# Altium integrated library National Semiconductor Audio.IntLib: 683 symbols (part 18 of 18)
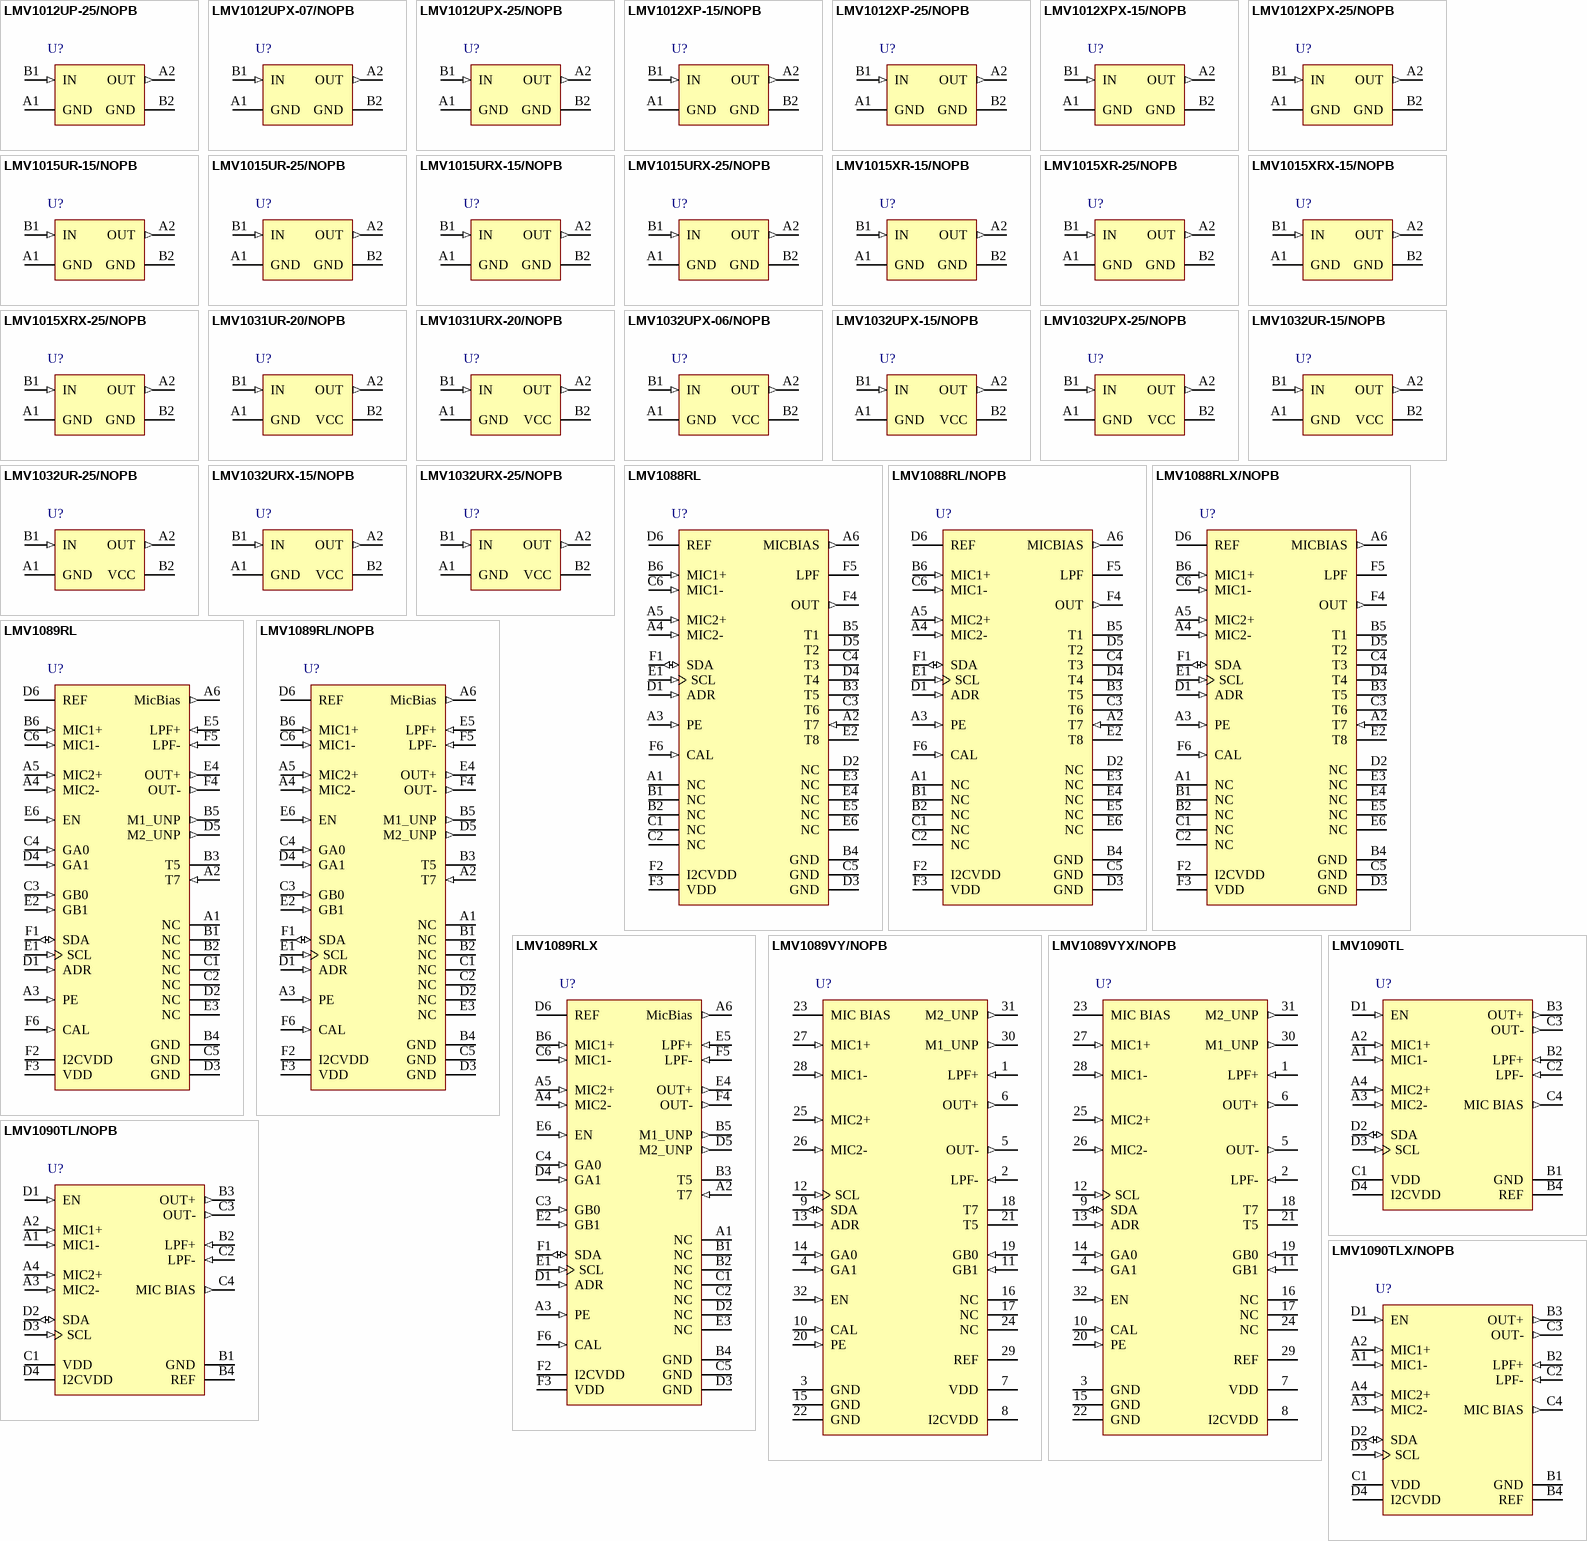
[diagram p43: symbols LMV1012UP-25/NOPB to LMV1090TLX/NOPB]

## LMV1032URX-15/NOPB
designator U?
Amplifiers for 3-Wire Analog Electret Microphones, 4-pin Micro SMD, Pb-Free; PartNumber: LMV1032URX-15/NOPB; Manufacturer: National Semiconductor; PackageTopMarking: X*I; PowerWise: N; CompType: Audio IC; High-Reliability: Y; DatasheetVersion: Nov-2005; PackageVersion: revC, Mar-2005; PackageReference: URA04JJA; PackageDescription: Ultra Thin Micro SMD, 4 Bump (Large), 0.5mm Pitch; RoHS: Y; PinCount: 4; ComponentLink1Description: Manufacturer URL; ComponentLink1URL: http://www.national.com/; ComponentLink2Description: LMV1032 Datasheet; ComponentLink2URL: http://www.national.com/ds/LM/LMV1032.pdf; ComponentLink3Description: LMV1032 Web Page; ComponentLink3URL: http://www.national.com/pf/LM/LMV1032.html; ComponentLink4Description: URA04JJA Package Page; ComponentLink4URL: http://www.national.com/packaging/folders/ura04jja.html
footprint URA04JJA (Micro SMD, 4-Leads, Body 1.18x1.18mm, Pitch 0.5mm, NSC Recommended)
pins: A1 GND (power), A2 OUT (out), B1 IN (in), B2 VCC (power)

## LMV1032URX-25/NOPB
designator U?
Amplifiers for 3-Wire Analog Electret Microphones, 4-pin Micro SMD, Pb-Free; PartNumber: LMV1032URX-25/NOPB; Manufacturer: National Semiconductor; PackageTopMarking: X*I; PowerWise: N; CompType: Audio IC; High-Reliability: Y; DatasheetVersion: Nov-2005; PackageVersion: revC, Mar-2005; PackageReference: URA04JJA; PackageDescription: Ultra Thin Micro SMD, 4 Bump (Large), 0.5mm Pitch; RoHS: Y; PinCount: 4; ComponentLink1Description: Manufacturer URL; ComponentLink1URL: http://www.national.com/; ComponentLink2Description: LMV1032 Datasheet; ComponentLink2URL: http://www.national.com/ds/LM/LMV1032.pdf; ComponentLink3Description: LMV1032 Web Page; ComponentLink3URL: http://www.national.com/pf/LM/LMV1032.html; ComponentLink4Description: URA04JJA Package Page; ComponentLink4URL: http://www.national.com/packaging/folders/ura04jja.html
footprint URA04JJA (Micro SMD, 4-Leads, Body 1.18x1.18mm, Pitch 0.5mm, NSC Recommended)
pins: A1 GND (power), A2 OUT (out), B1 IN (in), B2 VCC (power)

## LMV1088RL
designator U?
Dual Input, Clarisound TM Far Field Noise Suppression Microphone Amplifier with Automatic Calibration Ability, 36-pin Micro SMDXT; PartNumber: LMV1088RL; Manufacturer: National Semiconductor; PackageTopMarking: XYTT*I ZA1; PowerWise: Y; CompType: Audio IC; DatasheetVersion: Feb-2009; PackageVersion: revA, 2008; PackageReference: RLA36TTA; PackageDescription: Micro SMDxt, 36 Bump (Large), 0.5mm Pitch; RoHS: Y; PinCount: 36; High-Reliability: Y; ComponentLink1Description: Manufacturer URL; ComponentLink1URL: http://www.national.com/; ComponentLink2Description: LMV1088 Datasheet; ComponentLink2URL: http://www.national.com/ds/LM/LMV1088.pdf; ComponentLink3Description: LMV1088 Web Page; ComponentLink3URL: http://www.national.com/pf/LM/LMV1088.html
footprint RLA36TTA (Micro SMD, 36-Leads, Body 3.46x3.46mm, Pitch 0.5mm, NSC Recommended)
pins: A1 NC, A2 T7 (in), A3 PE (in), A4 MIC2- (in), A5 MIC2+ (in), A6 MICBIAS (out), B1 NC, B2 NC, B3 T5, B4 GND (power), B5 T1, B6 MIC1+ (in), C1 NC, C2 NC, C3 T6, C4 T3, C5 GND (power), C6 MIC1- (in), D1 ADR (in), D2 NC, D3 GND (power), D4 T4, D5 T2, D6 REF, E1 SCL (in), E2 T8 (power), E3 NC, E4 NC, E5 NC, E6 NC, F1 SDA (io), F2 I2CVDD (power), F3 VDD (power), F4 OUT (out), F5 LPF, F6 CAL (in)

## LMV1088RL/NOPB
designator U?
Dual Input, Far Field Noise Suppression Microphone Amplifier with Automatic Calibration Ability, 36-pin Micro SMDXT, Pb-Free; PartNumber: LMV1088RL/NOPB; Manufacturer: National Semiconductor; PackageTopMarking: XYTT*I ZA1; PowerWise: Y; CompType: Audio IC; DatasheetVersion: Feb-2009; PackageVersion: revA, 2008; PackageReference: RLA36TTA; PackageDescription: Micro SMDxt, 36 Bump (Large), 0.5mm Pitch; RoHS: Y; PinCount: 36; High-Reliability: Y; ComponentLink1Description: Manufacturer URL; ComponentLink1URL: http://www.national.com/; ComponentLink2Description: LMV1088 Datasheet; ComponentLink2URL: http://www.national.com/ds/LM/LMV1088.pdf; ComponentLink3Description: LMV1088 Web Page; ComponentLink3URL: http://www.national.com/pf/LM/LMV1088.html; ComponentLink4Description: RLA36TTA Package Page; ComponentLink4URL: http://www.national.com/packaging/folders/rla36tta.html
footprint RLA36TTA (Micro SMD, 36-Leads, Body 3.46x3.46mm, Pitch 0.5mm, NSC Recommended)
pins: A1 NC, A2 T7 (in), A3 PE (in), A4 MIC2- (in), A5 MIC2+ (in), A6 MICBIAS (out), B1 NC, B2 NC, B3 T5, B4 GND (power), B5 T1, B6 MIC1+ (in), C1 NC, C2 NC, C3 T6, C4 T3, C5 GND (power), C6 MIC1- (in), D1 ADR (in), D2 NC, D3 GND (power), D4 T4, D5 T2, D6 REF, E1 SCL (in), E2 T8 (power), E3 NC, E4 NC, E5 NC, E6 NC, F1 SDA (io), F2 I2CVDD (power), F3 VDD (power), F4 OUT (out), F5 LPF, F6 CAL (in)

## LMV1088RLX/NOPB
designator U?
Dual Input, Far Field Noise Suppression Microphone Amplifier with Automatic Calibration Ability, 36-pin Micro SMDXT, Pb-Free; PartNumber: LMV1088RLX/NOPB; Manufacturer: National Semiconductor; PackageTopMarking: XYTT*I ZA1; PowerWise: Y; CompType: Audio IC; DatasheetVersion: Feb-2009; PackageVersion: revA, 2008; PackageReference: RLA36TTA; PackageDescription: Micro SMDxt, 36 Bump (Large), 0.5mm Pitch; RoHS: Y; PinCount: 36; High-Reliability: Y; ComponentLink1Description: Manufacturer URL; ComponentLink1URL: http://www.national.com/; ComponentLink2Description: LMV1088 Datasheet; ComponentLink2URL: http://www.national.com/ds/LM/LMV1088.pdf; ComponentLink3Description: LMV1088 Web Page; ComponentLink3URL: http://www.national.com/pf/LM/LMV1088.html; ComponentLink4Description: RLA36TTA Package Page; ComponentLink4URL: http://www.national.com/packaging/folders/rla36tta.html
footprint RLA36TTA (Micro SMD, 36-Leads, Body 3.46x3.46mm, Pitch 0.5mm, NSC Recommended)
pins: A1 NC, A2 T7 (in), A3 PE (in), A4 MIC2- (in), A5 MIC2+ (in), A6 MICBIAS (out), B1 NC, B2 NC, B3 T5, B4 GND (power), B5 T1, B6 MIC1+ (in), C1 NC, C2 NC, C3 T6, C4 T3, C5 GND (power), C6 MIC1- (in), D1 ADR (in), D2 NC, D3 GND (power), D4 T4, D5 T2, D6 REF, E1 SCL (in), E2 T8 (power), E3 NC, E4 NC, E5 NC, E6 NC, F1 SDA (io), F2 I2CVDD (power), F3 VDD (power), F4 OUT (out), F5 LPF, F6 CAL (in)

## LMV1089RL
designator U?
Dual Input, ClarisoundTM Far Field Noise Suppression Microphone Amplifier with Automatic Calibration Capability, 36-pin Micro SMDXT; PartNumber: LMV1089RL; Manufacturer: National Semiconductor; PackageTopMarking: XYTT*I ZA2; PowerWise: Y; CompType: Audio IC; DatasheetVersion: Jul-2009; PackageVersion: revA, 2008; PackageReference: RLA36TTA; PackageDescription: Micro SMDxt, 36 Bump (Large), 0.5mm Pitch; RoHS: N; PinCount: 36; High-Reliability: Y; ComponentLink1Description: Manufacturer URL; ComponentLink1URL: http://www.national.com/; ComponentLink2Description: LMV1089 Datasheet; ComponentLink2URL: http://www.national.com/ds/LM/LMV1089.pdf; ComponentLink3Description: LMV1089 Web Page; ComponentLink3URL: http://www.national.com/pf/LM/LMV1089.html; ComponentLink4Description: RLA36TTA Package Page; ComponentLink4URL: http://www.national.com/packaging/folders/rla36tta.html
footprint RLA36TTA (Micro SMD, 36-Leads, Body 3.46x3.46mm, Pitch 0.5mm, NSC Recommended)
pins: A1 NC, A2 T7 (in), A3 PE (in), A4 MIC2- (in), A5 MIC2+ (in), A6 MicBias (out), B1 NC, B2 NC, B3 T5, B4 GND (power), B5 M1_UNP (out), B6 MIC1+ (in), C1 NC, C2 NC, C3 GB0 (in), C4 GA0 (in), C5 GND (power), C6 MIC1- (in), D1 ADR (in), D2 NC, D3 GND (power), D4 GA1 (in), D5 M2_UNP (out), D6 REF, E1 SCL (in), E2 GB1 (in), E3 NC, E4 OUT+ (out), E5 LPF+ (in), E6 EN (in), F1 SDA (io), F2 I2CVDD (power), F3 VDD (power), F4 OUT- (out), F5 LPF- (in), F6 CAL (in)

## LMV1089RL/NOPB
designator U?
Dual Input, Far Field Noise Suppression Microphone Amplifier with Automatic Calibration Capability, 36-pin Micro SMDXT, Pb-Free; PartNumber: LMV1089RL/NOPB; Manufacturer: National Semiconductor; PackageTopMarking: XYTT*I ZA2; PowerWise: Y; CompType: Audio IC; DatasheetVersion: Jul-2009; PackageVersion: revA, 2008; PackageReference: RLA36TTA; PackageDescription: Micro SMDxt, 36 Bump (Large), 0.5mm Pitch; RoHS: Y; PinCount: 36; High-Reliability: Y; ComponentLink1Description: Manufacturer URL; ComponentLink1URL: http://www.national.com/; ComponentLink2Description: LMV1089 Datasheet; ComponentLink2URL: http://www.national.com/ds/LM/LMV1089.pdf; ComponentLink3Description: LMV1089 Web Page; ComponentLink3URL: http://www.national.com/pf/LM/LMV1089.html; ComponentLink4Description: RLA36TTA Package Page; ComponentLink4URL: http://www.national.com/packaging/folders/rla36tta.html
footprint RLA36TTA (Micro SMD, 36-Leads, Body 3.46x3.46mm, Pitch 0.5mm, NSC Recommended)
pins: A1 NC, A2 T7 (in), A3 PE (in), A4 MIC2- (in), A5 MIC2+ (in), A6 MicBias (out), B1 NC, B2 NC, B3 T5, B4 GND (power), B5 M1_UNP (out), B6 MIC1+ (in), C1 NC, C2 NC, C3 GB0 (in), C4 GA0 (in), C5 GND (power), C6 MIC1- (in), D1 ADR (in), D2 NC, D3 GND (power), D4 GA1 (in), D5 M2_UNP (out), D6 REF, E1 SCL (in), E2 GB1 (in), E3 NC, E4 OUT+ (out), E5 LPF+ (in), E6 EN (in), F1 SDA (io), F2 I2CVDD (power), F3 VDD (power), F4 OUT- (out), F5 LPF- (in), F6 CAL (in)

## LMV1089RLX
designator U?
Dual Input, Far Field Noise Suppression Microphone Amplifier with Automatic Calibration Capability, 36-pin Micro SMDXT; PartNumber: LMV1089RLX; Manufacturer: National Semiconductor; PackageTopMarking: XYTT*I ZA2; PowerWise: Y; CompType: Audio IC; DatasheetVersion: Jul-2009; PackageVersion: revA, 2008; PackageReference: RLA36TTA; PackageDescription: Micro SMDxt, 36 Bump (Large), 0.5mm Pitch; RoHS: N; PinCount: 36; High-Reliability: Y; ComponentLink1Description: Manufacturer URL; ComponentLink1URL: http://www.national.com/; ComponentLink2Description: LMV1089 Datasheet; ComponentLink2URL: http://www.national.com/ds/LM/LMV1089.pdf; ComponentLink3Description: LMV1089 Web Page; ComponentLink3URL: http://www.national.com/pf/LM/LMV1089.html; ComponentLink4Description: RLA36TTA Package Page; ComponentLink4URL: http://www.national.com/packaging/folders/rla36tta.html
footprint RLA36TTA (Micro SMD, 36-Leads, Body 3.46x3.46mm, Pitch 0.5mm, NSC Recommended)
pins: A1 NC, A2 T7 (in), A3 PE (in), A4 MIC2- (in), A5 MIC2+ (in), A6 MicBias (out), B1 NC, B2 NC, B3 T5, B4 GND (power), B5 M1_UNP (out), B6 MIC1+ (in), C1 NC, C2 NC, C3 GB0 (in), C4 GA0 (in), C5 GND (power), C6 MIC1- (in), D1 ADR (in), D2 NC, D3 GND (power), D4 GA1 (in), D5 M2_UNP (out), D6 REF, E1 SCL (in), E2 GB1 (in), E3 NC, E4 OUT+ (out), E5 LPF+ (in), E6 EN (in), F1 SDA (io), F2 I2CVDD (power), F3 VDD (power), F4 OUT- (out), F5 LPF- (in), F6 CAL (in)

## LMV1089VY/NOPB
designator U?
Dual Input, Far Field Noise Suppression Microphone Amplifier with Automatic Calibration Capability, 32-pin LQFP, Pb-Free; PartNumber: LMV1089VY/NOPB; Manufacturer: National Semiconductor; PackageTopMarking: NSUZXYTT*LMV1089*VY; PowerWise: Y; CompType: Audio IC; DatasheetVersion: Jul-2009; PackageVersion: revE, Dec-1999; PackageReference: VBE32A; PackageDescription: LQFP, JEDEC, Metric, 7 x 7 x 1.4mm, 32 Lead; RoHS: Y; PinCount: 32; High-Reliability: Y; ComponentLink1Description: Manufacturer URL; ComponentLink1URL: http://www.national.com/; ComponentLink2Description: LMV1089 Datasheet; ComponentLink2URL: http://www.national.com/ds/LM/LMV1089.pdf; ComponentLink3Description: LMV1089 Web Page; ComponentLink3URL: http://www.national.com/pf/LM/LMV1089.html; ComponentLink4Description: VBE32A Package Page; ComponentLink4URL: http://www.national.com/packaging/folders/vbe32a.html
footprint VBE32A_N (Thin QFP, 32-Leads, Body 7x7mm, Pitch 0.8mm, IPC Medium Density)
footprint VBE32A_L (Thin QFP, 32-Leads, Body 7x7mm, Pitch 0.8mm, IPC High Density)
footprint VBE32A_M (Thin QFP, 32-Leads, Body 7x7mm, Pitch 0.8mm, IPC Low Density)
pins: 1 LPF+ (in), 2 LPF- (in), 3 GND (power), 4 GA1 (in), 5 OUT- (out), 6 OUT+ (out), 7 VDD (power), 8 I2CVDD (power), 9 SDA (io), 10 CAL (in), 11 GB1 (in), 12 SCL (in), 13 ADR (in), 14 GA0 (in), 15 GND (power), 16 NC, 17 NC, 18 T7, 19 GB0 (in), 20 PE (in), 21 T5, 22 GND (power), 23 MIC BIAS, 24 NC, 25 MIC2+ (in), 26 MIC2- (in), 27 MIC1+ (in), 28 MIC1- (in), 29 REF (power), 30 M1_UNP (out), 31 M2_UNP (out), 32 EN (in)

## LMV1089VYX/NOPB
designator U?
Dual Input, Far Field Noise Suppression Microphone Amplifier with Automatic Calibration Capability, 32-pin LQFP, Pb-Free; PartNumber: LMV1089VYX/NOPB; Manufacturer: National Semiconductor; PackageTopMarking: NSUZXYTT*LMV1089*VY; PowerWise: Y; CompType: Audio IC; DatasheetVersion: Jul-2009; PackageVersion: revE, Dec-1999; PackageReference: VBE32A; PackageDescription: LQFP, JEDEC, Metric, 7 x 7 x 1.4mm, 32 Lead; RoHS: Y; PinCount: 32; High-Reliability: Y; ComponentLink1Description: Manufacturer URL; ComponentLink1URL: http://www.national.com/; ComponentLink2Description: LMV1089 Datasheet; ComponentLink2URL: http://www.national.com/ds/LM/LMV1089.pdf; ComponentLink3Description: LMV1089 Web Page; ComponentLink3URL: http://www.national.com/pf/LM/LMV1089.html; ComponentLink4Description: VBE32A Package Page; ComponentLink4URL: http://www.national.com/packaging/folders/vbe32a.html
footprint VBE32A_N (Thin QFP, 32-Leads, Body 7x7mm, Pitch 0.8mm, IPC Medium Density)
footprint VBE32A_L (Thin QFP, 32-Leads, Body 7x7mm, Pitch 0.8mm, IPC High Density)
footprint VBE32A_M (Thin QFP, 32-Leads, Body 7x7mm, Pitch 0.8mm, IPC Low Density)
pins: 1 LPF+ (in), 2 LPF- (in), 3 GND (power), 4 GA1 (in), 5 OUT- (out), 6 OUT+ (out), 7 VDD (power), 8 I2CVDD (power), 9 SDA (io), 10 CAL (in), 11 GB1 (in), 12 SCL (in), 13 ADR (in), 14 GA0 (in), 15 GND (power), 16 NC, 17 NC, 18 T7, 19 GB0 (in), 20 PE (in), 21 T5, 22 GND (power), 23 MIC BIAS, 24 NC, 25 MIC2+ (in), 26 MIC2- (in), 27 MIC1+ (in), 28 MIC1- (in), 29 REF (power), 30 M1_UNP (out), 31 M2_UNP (out), 32 EN (in)

## LMV1090TL
designator U?
Dual Input, Far Field Noise Suppression Microphone Amplifier, 16-pin Micro SMD; PartNumber: LMV1090TL; Manufacturer: National Semiconductor; PackageTopMarking: XYTT*I ZA3; PowerWise: Y; CompType: Audio IC; DatasheetVersion: Oct-2009; PackageVersion: revC, Jan-2004; PackageReference: TLA1611A; PackageDescription: Thin Micro SMD, 16 Bump (Large), 0.5mm Pitch; RoHS: Y; PinCount: 16; High-Reliability: Y; Code_JEDEC: MO-211-DF; ComponentLink1Description: Manufacturer URL; ComponentLink1URL: http://www.national.com/; ComponentLink2Description: LMV1090 Datasheet; ComponentLink2URL: http://www.national.com/ds/LM/LMV1090.pdf; ComponentLink3Description: LMV1090 Web Page; ComponentLink3URL: http://www.national.com/pf/LM/LMV1090.html; ComponentLink4Description: TLA1611A Package Page; ComponentLink4URL: http://www.national.com/packaging/folders/tla1611a.html
footprint TLA1611A (Micro SMD, 16-Leads, Body 1.97x1.97mm, Pitch 0.5mm, NSC Recommended)
pins: A1 MIC1- (in), A2 MIC1+ (in), A3 MIC2- (in), A4 MIC2+ (in), B1 GND (power), B2 LPF+ (in), B3 OUT+ (out), B4 REF, C1 VDD (power), C2 LPF- (in), C3 OUT- (out), C4 MIC BIAS (out), D1 EN (in), D2 SDA (io), D3 SCL (in), D4 I2CVDD (power)

## LMV1090TL/NOPB
designator U?
Dual Input, Far Field Noise Suppression Microphone Amplifier, 16-pin Micro SMD, Pb-Free; PartNumber: LMV1090TL/NOPB; Manufacturer: National Semiconductor; PackageTopMarking: XYTT*I ZA3; PowerWise: Y; CompType: Audio IC; DatasheetVersion: Oct-2009; PackageVersion: revC, Jan-2004; PackageReference: TLA1611A; PackageDescription: Thin Micro SMD, 16 Bump (Large), 0.5mm Pitch; RoHS: Y; PinCount: 16; High-Reliability: Y; Code_JEDEC: MO-211-DF; ComponentLink1Description: Manufacturer URL; ComponentLink1URL: http://www.national.com/; ComponentLink2Description: LMV1090 Datasheet; ComponentLink2URL: http://www.national.com/ds/LM/LMV1090.pdf; ComponentLink3Description: LMV1090 Web Page; ComponentLink3URL: http://www.national.com/pf/LM/LMV1090.html; ComponentLink4Description: TLA1611A Package Page; ComponentLink4URL: http://www.national.com/packaging/folders/tla1611a.html
footprint TLA1611A (Micro SMD, 16-Leads, Body 1.97x1.97mm, Pitch 0.5mm, NSC Recommended)
pins: A1 MIC1- (in), A2 MIC1+ (in), A3 MIC2- (in), A4 MIC2+ (in), B1 GND (power), B2 LPF+ (in), B3 OUT+ (out), B4 REF, C1 VDD (power), C2 LPF- (in), C3 OUT- (out), C4 MIC BIAS (out), D1 EN (in), D2 SDA (io), D3 SCL (in), D4 I2CVDD (power)

## LMV1090TLX/NOPB
designator U?
Dual Input, Far Field Noise Suppression Microphone Amplifier, 16-pin Micro SMD, Pb-Free; PartNumber: LMV1090TLX/NOPB; Manufacturer: National Semiconductor; PackageTopMarking: XYTT*I ZA3; PowerWise: Y; CompType: Audio IC; DatasheetVersion: Oct-2009; PackageVersion: revC, Jan-2004; PackageReference: TLA1611A; PackageDescription: Thin Micro SMD, 16 Bump (Large), 0.5mm Pitch; RoHS: Y; PinCount: 16; High-Reliability: Y; Code_JEDEC: MO-211-DF; ComponentLink1Description: Manufacturer URL; ComponentLink1URL: http://www.national.com/; ComponentLink2Description: LMV1090 Datasheet; ComponentLink2URL: http://www.national.com/ds/LM/LMV1090.pdf; ComponentLink3Description: LMV1090 Web Page; ComponentLink3URL: http://www.national.com/pf/LM/LMV1090.html; ComponentLink4Description: TLA1611A Package Page; ComponentLink4URL: http://www.national.com/packaging/folders/tla1611a.html
footprint TLA1611A (Micro SMD, 16-Leads, Body 1.97x1.97mm, Pitch 0.5mm, NSC Recommended)
pins: A1 MIC1- (in), A2 MIC1+ (in), A3 MIC2- (in), A4 MIC2+ (in), B1 GND (power), B2 LPF+ (in), B3 OUT+ (out), B4 REF, C1 VDD (power), C2 LPF- (in), C3 OUT- (out), C4 MIC BIAS (out), D1 EN (in), D2 SDA (io), D3 SCL (in), D4 I2CVDD (power)

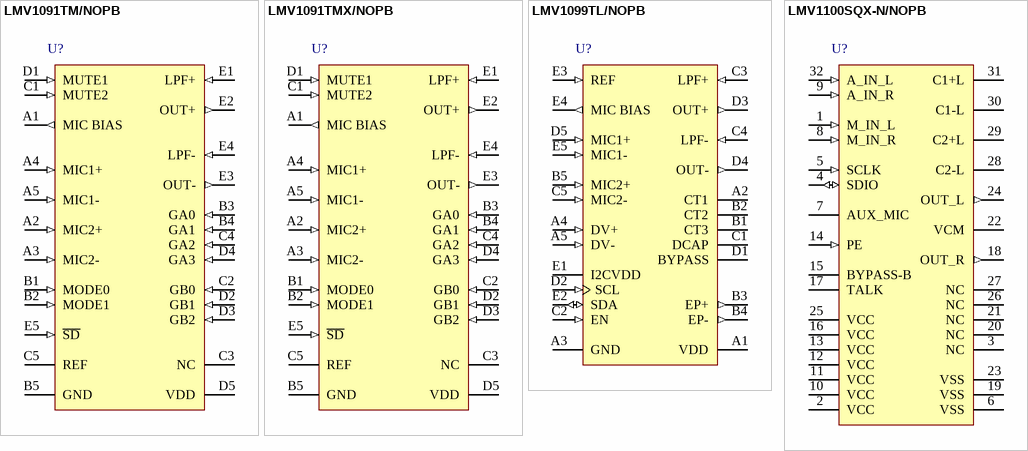
[diagram p27: symbols LMV1091TM/NOPB to LMV1100SQX-N/NOPB]

## LMV1091TM/NOPB
designator U?
Dual Input, Far Field Noise Suppression Microphone Amplifier, 25-pin Micro SMD, Pb-Free; PartNumber: LMV1091TM/NOPB; Manufacturer: National Semiconductor; PackageTopMarking: XYTT*I ZA4; PowerWise: Y; CompType: Audio IC; DatasheetVersion: Oct-2009; PackageVersion: revC, 2009; PackageReference: TMD25AAA; PackageDescription: Thin Micro SMD, 25 Bump, 0.4mm Pitch; RoHS: Y; PinCount: 25; High-Reliability: Y; ComponentLink1Description: Manufacturer URL; ComponentLink1URL: http://www.national.com/; ComponentLink2Description: LMV1091 Datasheet; ComponentLink2URL: http://www.national.com/ds/LM/LMV1091.pdf; ComponentLink3Description: LMV1091 Web Page; ComponentLink3URL: http://www.national.com/pf/LM/LMV1091.html; ComponentLink4Description: TMD25AAA Package Page; ComponentLink4URL: http://www.national.com/packaging/folders/tmd25aaa.html
footprint TMD25AAA (Micro SMD, 25-Leads, Body 2.02x2.02mm, Pitch 0.4mm, NSC Recommended)
pins: A1 MIC BIAS (out), A2 MIC2+ (in), A3 MIC2- (in), A4 MIC1+ (in), A5 MIC1- (in), B1 MODE0 (in), B2 MODE1 (in), B3 GA0 (in), B4 GA1 (in), B5 GND (power), C1 MUTE2 (in), C2 GB0 (in), C3 NC, C4 GA2 (in), C5 REF (power), D1 MUTE1 (in), D2 GB1 (in), D3 GB2 (in), D4 GA3 (in), D5 VDD (power), E1 LPF+ (in), E2 OUT+ (out), E3 OUT- (out), E4 LPF- (in), E5 ~{SD} (in)

## LMV1091TMX/NOPB
designator U?
Dual Input, Far Field Noise Suppression Microphone Amplifier, 25-pin Micro SMD, Pb-Free; PartNumber: LMV1091TMX/NOPB; Manufacturer: National Semiconductor; PackageTopMarking: XYTT*I ZA4; PowerWise: Y; CompType: Audio IC; DatasheetVersion: Oct-2009; PackageVersion: revC, 2009; PackageReference: TMD25AAA; PackageDescription: Thin Micro SMD, 25 Bump, 0.4mm Pitch; RoHS: Y; PinCount: 25; High-Reliability: Y; ComponentLink1Description: Manufacturer URL; ComponentLink1URL: http://www.national.com/; ComponentLink2Description: LMV1091 Datasheet; ComponentLink2URL: http://www.national.com/ds/LM/LMV1091.pdf; ComponentLink3Description: LMV1091 Web Page; ComponentLink3URL: http://www.national.com/pf/LM/LMV1091.html; ComponentLink4Description: TMD25AAA Package Page; ComponentLink4URL: http://www.national.com/packaging/folders/tmd25aaa.html
footprint TMD25AAA (Micro SMD, 25-Leads, Body 2.02x2.02mm, Pitch 0.4mm, NSC Recommended)
pins: A1 MIC BIAS (out), A2 MIC2+ (in), A3 MIC2- (in), A4 MIC1+ (in), A5 MIC1- (in), B1 MODE0 (in), B2 MODE1 (in), B3 GA0 (in), B4 GA1 (in), B5 GND (power), C1 MUTE2 (in), C2 GB0 (in), C3 NC, C4 GA2 (in), C5 REF (power), D1 MUTE1 (in), D2 GB1 (in), D3 GB2 (in), D4 GA3 (in), D5 VDD (power), E1 LPF+ (in), E2 OUT+ (out), E3 OUT- (out), E4 LPF- (in), E5 ~{SD} (in)

## LMV1099TL/NOPB
designator U?
Uplink Far Field Noise Suppression & Downlink SNR Enhancing Microphone Amplifier with Earpiece Driver, 25-pin Micro SMD, 250 Reel; PartNumber: LMV1099TL/NOPB; Manufacturer: National Semiconductor; PackageTopMarking: XYTT*I ZA5; PowerWise: Y; CompType: Audio IC; DatasheetVersion: Mar-2011; PackageVersion: revD, Dec-2003; PackageReference: TLA25GMA; PackageDescription: Thin Micro SMD, 25 Bump (Large), 2.77 x 2.64 x 0.60mm Body, 0.5mm Pitch; RoHS: Y; PinCount: 25; High-Reliability: Y; Code_JEDEC: MO-211-DH; ComponentLink1Description: Manufacturer URL; ComponentLink1URL: http://www.national.com/; ComponentLink2Description: LMV1099 Datasheet; ComponentLink2URL: http://www.national.com/ds/LM/LMV1099.pdf; ComponentLink3Description: LMV1099 Web Page; ComponentLink3URL: http://www.national.com/pf/LM/LMV1099.html; ComponentLink4Description: TLA25GMA Package Page; ComponentLink4URL: http://www.national.com/packaging/folders/tla25gma.html
footprint TLA25GMA (Micro SMD, 25-Leads, Body 2.77x2.64mm, Pitch 0.5mm, NSC Recommended)
pins: A1 VDD (power), A2 CT1, A3 GND (power), A4 DV+ (in), A5 DV- (in), B1 CT3, B2 CT2, B3 EP+ (out), B4 EP- (out), B5 MIC2+ (in), C1 DCAP, C2 EN (in), C3 LPF+ (in), C4 LPF- (in), C5 MIC2- (in), D1 BYPASS, D2 SCL (in), D3 OUT+ (out), D4 OUT- (out), D5 MIC1+ (in), E1 I2CVDD (power), E2 SDA (io), E3 REF (in), E4 MIC BIAS (out), E5 MIC1- (in)

## LMV1100SQX-N/NOPB
designator U?
LLP Active Noise Cancelling Processor for Over-the-Ear Headphones, 32-pin LLP; PartNumber: LMV1100SQX-N/NOPB; Manufacturer: National Semiconductor; PackageTopMarking: NS*UZXYTT*L1100; PowerWise: N; CompType: Audio IC; High-Reliability: Y; DatasheetVersion: Sep-2010; PackageVersion: revA, Jul-2010; PackageReference: SQA32C; PackageDescription: LLP, Quad, 5 x 5 x 0.75mm Body, 32 Lead, 0.5 mm Pitch, No Pullback, 3.4 x 3.4 mm Exposed Pad; RoHS: Y; PinCount: 32; Code_JEDEC: MO-243-WHHD; ComponentLink1Description: Manufacturer URL; ComponentLink1URL: http://www.national.com/; ComponentLink2Description: LMV1100 Datasheet; ComponentLink2URL: http://www.national.com/ds/LM/LMV1100.pdf; ComponentLink3Description: LMV1100 Web Page; ComponentLink3URL: http://www.national.com/pf/LM/LMV1100.html; ComponentLink4Description: SQA32C Package Page; ComponentLink4URL: http://www.national.com/packaging/folders/sqa32c.html
footprint SQA32C (QFN, 32-Leads, Body 5x5mm, Pitch 0.5mm, Thermal Pad 3.4x3.4mm, NSC Recommended)
pins: 1 M_IN_L (in), 2 VCC (power), 3 NC, 4 SDIO (io), 5 SCLK (in), 6 VSS (power), 7 AUX_MIC, 8 M_IN_R (in), 9 A_IN_R (in), 10 VCC (power), 11 VCC (power), 12 VCC (power), 13 VCC (power), 14 PE (in), 15 BYPASS-B, 16 VCC (power), 17 TALK, 18 OUT_R (out), 19 VSS (power), 20 NC, 21 NC, 22 VCM, 23 VSS (power), 24 OUT_L (out), 25 VCC (power), 26 NC, 27 NC, 28 C2-L, 29 C2+L, 30 C1-L, 31 C1+L, 32 A_IN_L (in)